# EAGLE library part ADUM5402 (library hsk_2012)
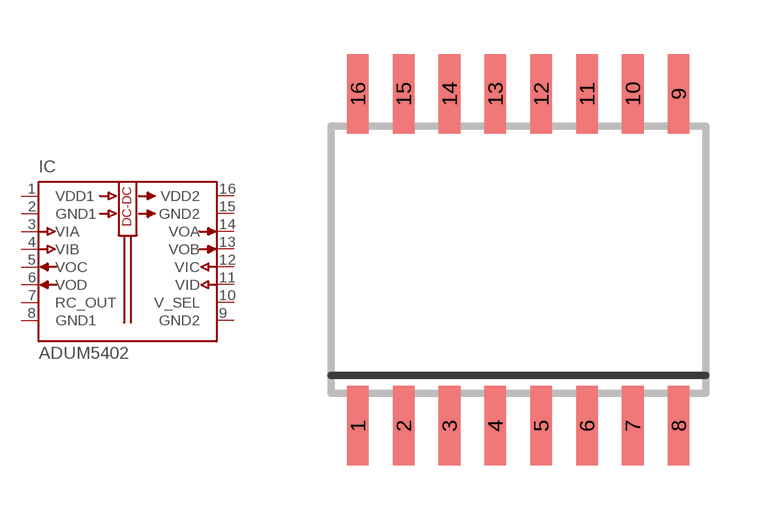
[diagram p1: symbol with the pads of SO-16W; footprint SO-16W]

Designator prefix IC

## ADUM5402_SOIC16  [SO-16W]
1  VDD1  pwr
2  GND1  pwr
3  VIA  in
4  VIB  in
5  VOC  out
6  VOD  out
7  RC_OUT  nc
8  GND1  pwr
9  GND2  pwr
10  V_SEL  in
11  VID  in
12  VIC  in
13  VOB  out
14  VOA  out
15  GND2  sup
16  VDD2  sup

## Footprint SO-16W (pad centres in mm)
16-Lead (Wide Body) Small Outline Package (R-16) Source: http://www.analog.com/UploadedFiles/Data_Sheets/409317160AD421_c.pdf
smd 0.6 x 2.2: 1 -4.445,-4.6; 2 -3.175,-4.6; 3 -1.905,-4.6; 4 -0.635,-4.6; 5 0.635,-4.6; 6 1.905,-4.6; 7 3.175,-4.6; 8 4.445,-4.6; 9 4.445,4.6; 10 3.175,4.6; 11 1.905,4.6; 12 0.635,4.6; 13 -0.635,4.6; 14 -1.905,4.6; 15 -3.175,4.6; 16 -4.445,4.6